# Altium footprint library USB-RS485-unit.PcbLib: 16 footprints
Each footprint in its own frame and in the unit in brackets; x right, y up, seen from the top. Pads: shape width x height; smd on the part's side, far side on the other; paste and mask are expansions set on the pad; w line width, h text height; cw(c..) or ccw(c..) is an arc to the next point about the centre after c.
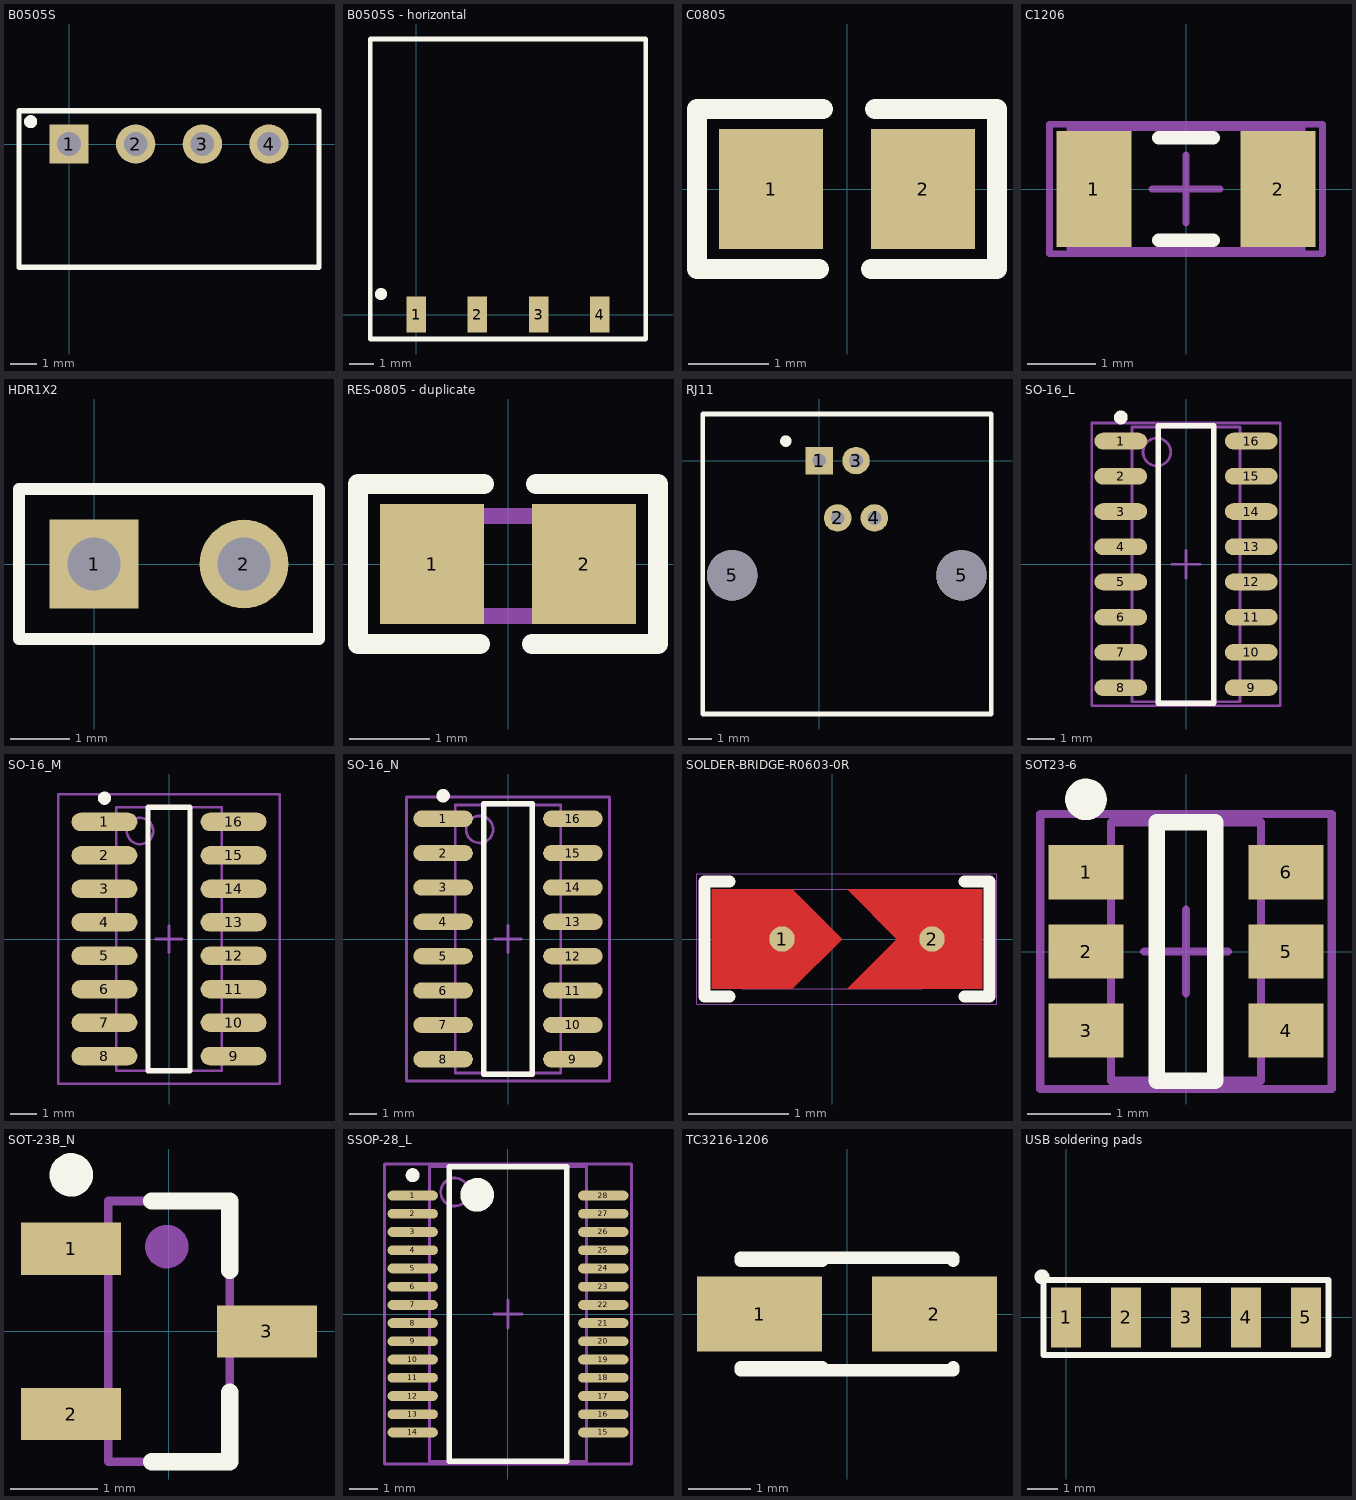
[diagram p0: the footprints below, top view; thin cyan lines are the x and y axes]

## B0505S [mm] "Isolated DC-DC"
pads (4):
  rect 1.5x1.5 hole 0.9: 1(0,0)
  round 1.5 hole 0.9: 2(2.54,0) 3(5.08,0) 4(7.62,0)
Top Overlay:
  circle w0.25: c-1.461,0.85 r0.125
  lines w0.2: -1.905,-4.699 -1.905,1.27 9.525,1.27 9.525,-4.699 -1.905,-4.699
3D body "B0505S-vertical.x_t": height 10.01, standoff -1.99, extent -1.94,-4.778 9.56,1.232

## B0505S - horizontal [mm] "Isolated DC-DC"
pads (4):
  rect 0.8x1.5 smd: 1(0,0) 2(2.54,0) 3(5.08,0) 4(7.62,0)
Top Overlay:
  circle w0.25: c-1.461,0.85 r0.125
  lines w0.2: -1.905,-1.016 -1.905,11.43 9.525,11.43 9.525,-1.016 -1.905,-1.016
3D body "B0505S-horizontal.x_t": height 6.01, standoff 0, extent -1.94,-0.266 9.56,11.397

## C0805 [mm] "Chip Capacitor"
height 0.6
pads (2):
  rect 1.3x1.5 smd: 1(-0.95,0) 2(0.95,0)
Top Overlay:
  lines w0.254: -0.35,-1 -1.875,-1 -1.875,1 -0.3,1 ; 0.3,-1 1.875,-1 1.875,1 0.35,1
3D body "CAP 0805.x_t": height 1.29, standoff 0.01, extent -1,-0.637 1,0.637

## C1206 [mm] "Chip Capacitor, Body 3.2x1.6mm, IPC High Density"
height 1.3
pads (2):
  rect 1.1x1.7 smd: 1(-1.35,0) 2(1.35,0)
Top Overlay:
  lines w0.2: -0.4,-0.75 0.4,-0.75 ; -0.4,0.75 0.4,0.75
M13-Bottom 3D Body:
  lines w0.1: -1.7,-0.9 -1.7,0.9 1.7,0.9 1.7,-0.9 -1.7,-0.9
M15-Bottom Assembly:
  lines w0.1: -0.5,0 0.5,0 ; 0,-0.5 0,0.5 ; -2,-0.95 -2,0.95 2,0.95 2,-0.95 -2,-0.95
3D body "CAP 1206.x_t": height 1.64, standoff 0.01, extent -1.6,-0.8 1.6,0.824

## HDR1X2 [mm] "Connector; Header; 2 Position"
pads (2):
  rect 1.5x1.5 hole 0.9: 1(0,0)
  round 1.5 hole 0.9: 2(2.54,0)
Top Overlay:
  lines w0.2: -1.27,-1.27 3.81,-1.27 3.81,1.27 -1.27,1.27 -1.27,-1.27
3D body "PLS-2 (DS1021-1x2).x_b": height 8.61, standoff -2.99, extent -1.265,-1.275 3.815,1.265

## RES-0805 - duplicate [mm] "Chip Resistor; Body 2 x 1.3 mm (LxW typ)"
height 0.6
pads (2):
  rect 1.3x1.5 smd: 1(-0.95,0) 2(0.95,0)
Top Overlay:
  lines w0.254: -0.35,-1 -1.875,-1 -1.875,1 -0.3,1 ; 0.3,-1 1.875,-1 1.875,1 0.35,1
M14-Top Assembly:
  lines w0.2: -1.25,-0.65 1.3,-0.65 1.3,0.6 -1.25,0.6 -1.25,-0.65
3D body "Resistor 0805.x_b": height 0.51, standoff 0.01, extent -1.236,-0.65 1.286,0.6

## RJ11 [mm] "Connector"
pads (6):
  rect 1.2x1.2 hole 0.6: 1(0,0)
  round 1.2 hole 0.6: 2(0.8,-2.5) 3(1.6,0) 4(2.4,-2.5)
  round 2.2 hole 2.2 unplated: 5(-3.8,-5) 5(6.2,-5)
Top Overlay:
  circle w0.25: c-1.461,0.85 r0.125
  lines w0.2: -5.08,-11.049 7.493,-11.049 7.493,2.032 -5.08,2.032 -5.08,-11.049
3D body "rj11.x_t": height 14.61, standoff -2.99, extent -5.111,-11 7.511,2

## SO-16_L [mm] "16-Pin Small Outline Integrated Circuit 1.27 mm Pitch, IPC High Density"
height 1.75
pads (16):
  oval 1.9x0.6 smd: 1(-2.35,4.445) 2(-2.35,3.175) 3(-2.35,1.905) 4(-2.35,0.635) 5(-2.35,-0.635) 6(-2.35,-1.905) 7(-2.35,-3.175) 8(-2.35,-4.445) 9(2.35,-4.445) 10(2.35,-3.175) 11(2.35,-1.905) 12(2.35,-0.635) 13(2.35,0.635) 14(2.35,1.905) 15(2.35,3.175) 16(2.35,4.445)
Top Overlay:
  circle w0.25: c-2.35,5.295 r0.125
  lines w0.2: -1,-5 -1,5 1,5 1,-5 -1,-5
M13-Bottom 3D Body:
  circle w0.1: c-1.05,4.05 r0.5
  lines w0.1: -1.95,-4.95 -1.95,4.95 1.95,4.95 1.95,-4.95 -1.95,-4.95
M15-Bottom Assembly:
  lines w0.1: -0.5,0 0.5,0 ; 0,-0.5 0,0.5 ; -3.4,-5.1 -3.4,5.1 3.4,5.1 3.4,-5.1 -3.4,-5.1
3D body "SOIC16 narrow.x_t": height 2, standoff 0, extent -3.082,-5.04 3.081,5.04

## SO-16_M [mm] "16-Pin Small Outline Integrated Circuit 1.27 mm Pitch, IPC Low Density"
height 1.75
pads (16):
  oval 2.5x0.7 smd: 1(-2.45,4.445) 2(-2.45,3.175) 3(-2.45,1.905) 4(-2.45,0.635) 5(-2.45,-0.635) 6(-2.45,-1.905) 7(-2.45,-3.175) 8(-2.45,-4.445) 9(2.45,-4.445) 10(2.45,-3.175) 11(2.45,-1.905) 12(2.45,-0.635) 13(2.45,0.635) 14(2.45,1.905) 15(2.45,3.175) 16(2.45,4.445)
Top Overlay:
  circle w0.25: c-2.45,5.345 r0.125
  lines w0.2: -0.8,-5 0.8,-5 0.8,5 -0.8,5 -0.8,-5
M13-Bottom 3D Body:
  circle w0.1: c-1.1,4.1 r0.5
  lines w0.1: -2,-5 2,-5 2,5 -2,5 -2,-5
M15-Bottom Assembly:
  lines w0.1: -0.5,0 0.5,0 ; 0,-0.5 0,0.5 ; -4.2,-5.5 4.2,-5.5 4.2,5.5 -4.2,5.5 -4.2,-5.5
3D body: height 1.75, standoff 0, extent -2,-5 2,5

## SO-16_N [mm] "16-Pin Small Outline Integrated Circuit 1.27 mm Pitch, IPC Medium Density"
height 1.75
pads (16):
  oval 2.2x0.6 smd: 1(-2.4,4.445) 2(-2.4,3.175) 3(-2.4,1.905) 4(-2.4,0.635) 5(-2.4,-0.635) 6(-2.4,-1.905) 7(-2.4,-3.175) 8(-2.4,-4.445) 9(2.4,-4.445) 10(2.4,-3.175) 11(2.4,-1.905) 12(2.4,-0.635) 13(2.4,0.635) 14(2.4,1.905) 15(2.4,3.175) 16(2.4,4.445)
Top Overlay:
  circle w0.25: c-2.4,5.295 r0.125
  lines w0.2: -0.9,-5 0.9,-5 0.9,5 -0.9,5 -0.9,-5
M13-Bottom 3D Body:
  circle w0.1: c-1.05,4.05 r0.5
  lines w0.1: -1.95,-4.95 1.95,-4.95 1.95,4.95 -1.95,4.95 -1.95,-4.95
M15-Bottom Assembly:
  lines w0.1: -0.5,0 0.5,0 ; 0,-0.5 0,0.5 ; -3.75,-5.25 3.75,-5.25 3.75,5.25 -3.75,5.25 -3.75,-5.25
3D body: height 1.75, standoff 0, extent -1.95,-4.95 1.95,4.95

## SOLDER-BRIDGE-R0603-0R [mil]
height 19.68
pads (2):
  round 10 smd paste-393.7: 1(-19.68,0) 2(39.37,0)
Top Layer:
  region: -47.24,-19.68 -47.24,19.68 -15.75,19.68 3.94,0 -15.75,-19.68
  region: 5.91,19.68 25.59,0 5.91,-19.68 59.06,-19.68 59.06,19.68
Top Overlay:
  lines w4.72: -40.35,-22.64 -50.2,-22.64 -50.2,6.89 -50.2,22.64 -40.35,22.64 ; 52.17,-22.64 62.01,-22.64 62.01,22.64 52.17,22.64
Top Paste:
  rectangle: 25.98,-19.68 51.18,19.68
  rectangle: -40.16,-19.68 -14.96,19.69
Top Solder:
  region: -42.32,21.65 -14.76,21.65 6.89,0 -14.76,-21.65 -42.32,-21.65
  region: 22.64,0 0.98,21.65 54.13,21.65 54.13,-21.65 0.98,-21.65
M14-Top Assembly:
  lines w0.39: -35.43,-19.68 -35.43,19.68 35.43,19.68 35.43,-19.68 -35.43,-19.68
  text "'.Designator'" at -80,25 h29.53
M16-Top Courtyard:
  lines w0.39: -53.15,-25.59 -53.15,25.59 -7.87,25.59 64.96,25.59 64.96,-25.59 -53.15,-25.59
3D body: height 19.68, standoff 0, extent -35.63,-19.88 35.63,19.88

## SOT23-6 [mm] "SOT23, 5-Leads, Body 2.9x1.6mm, Pitch 0.95mm, Lead Span 2.8mm, IPC High Density"
height 1.45
pads (6):
  rect 0.9x0.65 smd: 1(-1.2,0.95) 2(-1.2,0) 3(-1.2,-0.95) 4(1.2,-0.95) 5(1.2,0) 6(1.2,0.95)
Top Overlay:
  circle w0.25: c-1.2,1.825 r0.125
  lines w0.2: -0.35,-1.55 0.35,-1.55 0.35,1.55 -0.35,1.55 -0.35,-1.55
M13-Bottom 3D Body:
  lines w0.1: -0.9,-1.55 -0.9,1.55 0.9,1.55 0.9,-1.55 -0.9,-1.55
M15-Bottom Assembly:
  lines w0.1: -0.5,0 0.5,0 ; 0,-0.5 0,0.5 ; -1.75,-1.65 -1.75,1.65 1.75,1.65 1.75,-1.65 -1.75,-1.65
3D body "SOT-23-6.x_t": height 1, standoff 0, extent -1.2,-1.45 1.187,1.45

## SOT-23B_N [mm] "SOT23, 3-Leads, Body 2.9x1.3mm, Pitch 0.95mm, Lead Span 2.4mm, IPC Medium Density"
height 1.14
pads (3):
  rect 1.15x0.6 smd: 1(-1.125,0.95) 2(-1.125,-0.95) 3(1.125,0)
Top Overlay:
  circle w0.25: c-1.125,1.8 r0.125
  lines w0.2: -0.2,-1.5 0.7,-1.5 0.7,-0.7 ; -0.2,1.5 0.7,1.5 0.7,0.7
M14-Top Assembly:
  circle w0.25: c-0.025,0.975 r0.125
  lines w0.1: -0.7,-1.5 -0.7,1.5 0.7,1.5 0.7,-1.5 -0.7,-1.5
3D body "sot-23-3-infineon.x_b": height 1, standoff 0, extent -1.135,-1.45 1.185,1.45

## SSOP-28_L [mm] "SOP, 28-Leads, Body 10.2x5.3mm, Pitch 0.65mm, IPC High Density"
height 2
pads (28):
  oval 1.8x0.35 smd: 1(-3.4,4.225) 2(-3.4,3.575) 3(-3.4,2.925) 4(-3.4,2.275) 5(-3.4,1.625) 6(-3.4,0.975) 7(-3.4,0.325) 8(-3.4,-0.325) 9(-3.4,-0.975) 10(-3.4,-1.625) 11(-3.4,-2.275) 12(-3.4,-2.925) 13(-3.4,-3.575) 14(-3.4,-4.225) 15(3.4,-4.225) 16(3.4,-3.575) 17(3.4,-2.925) 18(3.4,-2.275) 19(3.4,-1.625) 20(3.4,-0.975) 21(3.4,-0.325) 22(3.4,0.325) 23(3.4,0.975) 24(3.4,1.625) 25(3.4,2.275) 26(3.4,2.925) 27(3.4,3.575) 28(3.4,4.225)
Top Overlay:
  circle w0.25: c-3.4,4.95 r0.125
  circle w0.6: c-1.1,4.25 r0.3
  lines w0.2: -2.1,-5.25 -2.1,5.25 2.1,5.25 2.1,-5.25 -2.1,-5.25
M13-Bottom 3D Body:
  circle w0.1: c-1.9,4.35 r0.5
  lines w0.1: -2.8,-5.25 -2.8,5.25 2.8,5.25 2.8,-5.25 -2.8,-5.25
M15-Bottom Assembly:
  lines w0.1: -0.5,0 0.5,0 ; 0,-0.5 0,0.5 ; -4.4,-5.35 -4.4,5.35 4.4,5.35 4.4,-5.35 -4.4,-5.35
3D body "SSOP-28-TI-DB.x_t": height 1.97, standoff 0, extent -3.91,-5.1 3.911,5.1

## TC3216-1206 [mm] "Capacitor, SM Tantalum; Body 3.2 x 1.6 mm (LxW typ)"
height 2.2
pads (2):
  rect 2x1.2 smd: 1(-1.4,0) 2(1.4,0)
Top Overlay:
  lines w0.2: -1.7,-0.9 1.7,-0.9 1.7,-0.85 ; -1.7,-0.85 -0.4,-0.85 ; -1.7,0.85 -0.4,0.85 ; -1.7,0.9 1.7,0.9 1.7,0.85
3D body "593D A-CASE.x_t": height 1.84, standoff 0.01, extent -1.702,-0.95 1.702,0.948

## USB soldering pads [mm] "Isolated DC-DC"
pads (5):
  rect 1x2 smd: 1(0,0) 2(2,0) 3(4,0) 4(6,0) 5(8,0)
Top Overlay:
  circle w0.25: c-0.8,1.35 r0.125
  lines w0.2: -0.75,-1.25 -0.75,1.25 8.75,1.25 8.75,-1.25 -0.75,-1.25